# Altium integrated library altera-stratix-iv.IntLib: 38 symbols (part 5 of 21)
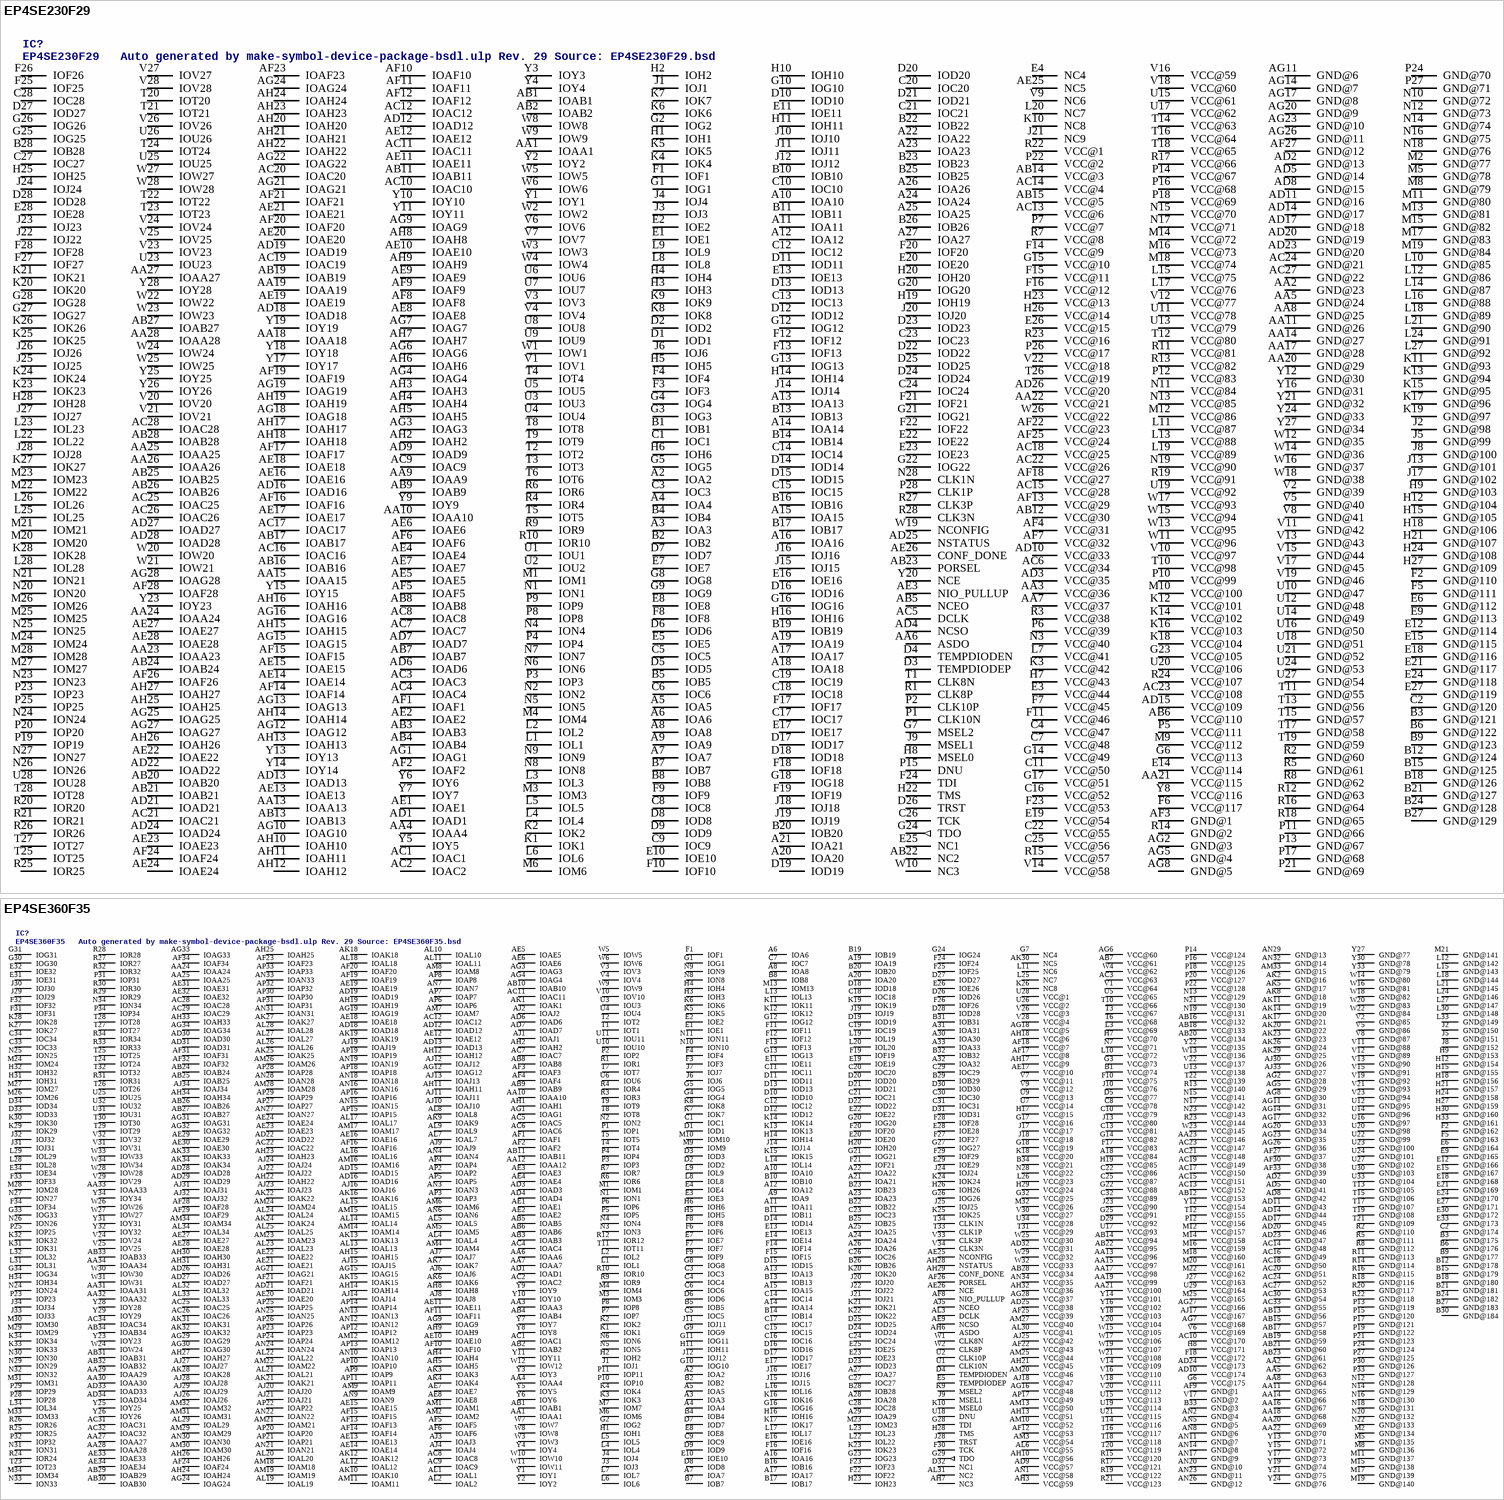
[diagram p20: symbols EP4SE230F29 to EP4SE360F35]

## EP4SE360F35
designator IC?, comment EP4SE360F35   Auto generated by make-symbol-device-package-bsdl.ulp Rev. 29 Source: EP4SE360F35.bsd
MPN: EP4SE360F35C2; OC_FARNELL: unknown; OC_NEWARK: 52R1681
footprint FBGA1152
pins: A2 IOA2, A3 IOA3, A4 IOA4, A5 IOA5, A6 IOA6, A7 IOA7, A8 IOA8, A9 IOA9, A10 IOA10, A11 IOA11, A12 IOA12, A13 IOA13, A14 IOA14, A15 IOA15, A16 IOA16, A17 IOA17, A18 VCC@84 (power), A19 IOA19, A20 IOA20, A21 IOA21, A22 IOA22, A23 IOA23, A24 IOA24, A25 IOA25, A26 IOA26, A27 IOA27, A28 IOA28, A29 IOA29, A30 IOA30, A31 IOA31, A32 IOA32, A33 IOA33, AA1 IOAA1, AA2 GND@62 (power), AA3 IOAA3, AA4 IOAA4, AA5 GND@63 (power), AA6 IOAA6, AA7 IOAA7, AA8 GND@64 (power), AA10 IOAA10, AA11 GND@65 (power), AA12 IOAA12, AA13 VCC@96 (power), AA14 GND@66 (power), AA15 VCC@97 (power), AA16 GND@67 (power), AA17 VCC@98 (power), AA18 GND@68 (power), AA19 VCC@99 (power), AA20 GND@69 (power), AA21 VCC@100 (power), AA22 GND@70 (power), AA23 VCC@146 (power), AA24 IOAA24, AA25 IOAA25, AA27 IOAA27, AA28 IOAA28, AA29 IOAA29, AA30 IOAA30, AA31 IOAA31, AA32 IOAA32, AA33 IOAA33, AA34 IOAA34, AB1 IOAB1, AB2 IOAB2, AB3 IOAB3, AB4 IOAB4, AB5 IOAB5, AB6 IOAB6, AB7 VCC@61 (power), AB8 IOAB8, AB9 IOAB9, AB10 IOAB10, AB11 IOAB11, AB12 VCC@153 (power), AB13 GND@56 (power), AB14 VCC@94 (power), AB15 GND@57 (power), AB16 VCC@132 (power), AB17 GND@58 (power), AB18 VCC@133 (power), AB19 GND@59 (power), AB20 VCC@134 (power), AB21 GND@60 (power), AB22 VCC@95 (power), AB23 GND@61 (power), AB24 IOAB24, AB25 IOAB25, AB26 IOAB26, AB27 IOAB27, AB28 VCC@34 (power), AB29 IOAB29, AB30 IOAB30, AB31 IOAB31, AB32 IOAB32, AB33 IOAB33, AB34 IOAB34, AC1 IOAC1, AC2 IOAC2, AC3 VCC@63 (power), AC4 IOAC4, AC5 IOAC5, AC6 IOAC6, AC7 IOAC7, AC8 IOAC8, AC9 IOAC9, AC10 VCC@170 (power), AC11 IOAC11, AC12 IOAC12, AC13 VCC@152 (power), AC14 GND@48 (power), AC15 VCC@151 (power), AC16 GND@49 (power), AC17 VCC@150 (power), AC18 GND@50 (power), AC19 VCC@149 (power), AC20 GND@51 (power), AC21 VCC@148 (power), AC22 IOAC22, AC23 VCC@147 (power), AC24 GND@52 (power), AC25 IOAC25, AC26 IOAC26, AC27 GND@53 (power), AC28 IOAC28, AC29 IOAC29, AC30 GND@54 (power), AC31 IOAC31, AC32 IOAC32, AC33 GND@55 (power), AC34 IOAC34, AD1 IOAD1, AD2 GND@40 (power), AD3 IOAD3, AD4 IOAD4, AD5 GND@41 (power), AD6 IOAD6, AD7 IOAD7, AD8 GND@42 (power), AD9 VCC@57 (power), AD10 VCC@174 (power), AD11 GND@43 (power), AD12 IOAD12, AD13 IOAD13, AD14 GND@44 (power), AD15 IOAD15, AD16 IOAD16, AD17 GND@45 (power), AD18 IOAD18, AD19 IOAD19, AD20 GND@46 (power), AD21 IOAD21, AD22 IOAD22, AD23 GND@47 (power), AD24 VCC@173 (power), AD25 VCC@38 (power), AD26 IOAD26, AD27 IOAD27, AD28 IOAD28, AD29 IOAD29, AD30 IOAD30, AD31 IOAD31, AD32 VCC@31 (power), AD33 IOAD33, AD34 IOAD34, AE1 IOAE1, AE2 IOAE2, AE3 IOAE3, AE4 IOAE4, AE5 IOAE5, AE6 IOAE6, AE7 IOAE7, AE8 IOAE8, AE9 NCSO, AE10 IOAE10, AE11 IOAE11, AE12 IOAE12, AE13 IOAE13, AE14 IOAE14, AE15 IOAE15, AE16 IOAE16, AE17 VCC@10 (power), AE18 IOAE18, AE19 IOAE19, AE20 IOAE20, AE21 IOAE21, AE22 IOAE22, AE23 IOAE23, AE24 IOAE24, AE25 NCONFIG, AE26 NCE, AE27 IOAE27, AE28 IOAE28, AE29 IOAE29, AE30 IOAE30, AE31 IOAE31, AE32 IOAE32, AE33 IOAE33, AE34 IOAE34, AF1 IOAF1, AF2 IOAF2, AF3 IOAF3, AF4 IOAF4, AF5 IOAF5, AF6 IOAF6, AF8 NIO_PULLUP, AF9 GND@1 (power), AF10 IOAF10, AF11 IOAF11, AF12 VCC@53 (power), AF13 IOAF13, AF14 IOAF14, AF15 IOAF15, AF16 IOAF16, AF17 VCC@8 (power), AF18 VCC@7 (power), AF19 IOAF19, AF20 IOAF20, AF21 IOAF21, AF22 VCC@43 (power), AF23 IOAF23, AF24 IOAF24, AF25 VCC@39 (power), AF26 PORSEL, AF27 GND@37 (power), AF28 IOAF28, AF29 IOAF29, AF30 GND@38 (power), AF31 IOAF31, AF32 IOAF32, AF33 GND@39 (power), AF34 IOAF34, AG1 IOAG1, AG2 GND@28 (power), AG3 IOAG3, AG4 IOAG4, AG5 GND@29 (power), AG6 VCC@60 (power), AG7 VCC@168 (power), AG8 GND@30 (power), AG9 IOAG9, AG11 GND@31 (power), AG12 IOAG12, AG14 GND@32 (power), AG15 IOAG15, AG16 VCC@48 (power), AG17 GND@33 (power), AG18 VCC@5 (power), AG19 IOAG19, AG20 GND@34 (power), AG21 IOAG21, AG23 GND@35 (power), AG24 IOAG24, AG26 GND@36 (power), AG27 VCC@166 (power), AG28 VCC@37 (power), AG29 IOAG29, AG30 IOAG30, AG31 IOAG31, AG32 IOAG32, AG33 IOAG33, AG34 IOAG34, AH1 IOAH1, AH2 IOAH2, AH3 VCC@59 (power), AH4 IOAH4, AH5 IOAH5, AH6 ASDO, AH7 NC3, AH8 IOAH8, AH9 IOAH9, AH10 VCC@56 (power), AH11 IOAH11, AH12 IOAH12, AH13 VCC@51 (power), AH14 IOAH14, AH15 IOAH15, AH17 VCC@9 (power), AH18 VCC@6 (power), AH19 IOAH19, AH21 VCC@45 (power), AH22 IOAH22, AH23 IOAH23, AH24 IOAH24, AH25 IOAH25, AH26 IOAH26, AH27 IOAH27, AH28 NSTATUS, AH29 CONF_DONE, AH30 IOAH30, AH31 IOAH31, AH32 VCC@36 (power), AH33 IOAH33, AH34 IOAH34, AJ1 IOAJ1, AJ2 IOAJ2, AJ3 IOAJ3, AJ4 IOAJ4, AJ5 NCEO, AJ6 IOAJ6, AJ7 IOAJ7, AJ8 IOAJ8, AJ9 IOAJ9, AJ10 IOAJ10, AJ11 IOAJ11, AJ12 IOAJ12, AJ13 IOAJ13, AJ14 IOAJ14, AJ15 IOAJ15, AJ16 IOAJ16, AJ17 VCC@167 (power), AJ18 VCC@47 (power), AJ19 IOAJ19, AJ20 IOAJ20, AJ21 IOAJ21, AJ22 IOAJ22, AJ23 IOAJ23, AJ24 IOAJ24, AJ25 VCC@42 (power), AJ26 IOAJ26, AJ27 IOAJ27, AJ28 IOAJ28, AJ29 IOAJ29, AJ30 GND@26 (power), AJ31 IOAJ31, AJ32 IOAJ32, AJ33 GND@27 (power), AJ34 IOAJ34, AK1 IOAK1, AK2 GND@16 (power), AK3 IOAK3, AK4 IOAK4, AK5 GND@17 (power), AK6 IOAK6, AK7 IOAK7, AK8 GND@18 (power), AK9 IOAK9, AK10 IOAK10, AK11 GND@19 (power), AK12 IOAK12, AK13 IOAK13, AK14 GND@20 (power), AK15 IOAK15, AK16 IOAK16, AK17 GND@21 (power), AK18 IOAK18, AK19 IOAK19, AK20 GND@22 (power), AK21 IOAK21, AK22 IOAK22, AK23 GND@23 (power), AK24 IOAK24, AK25 IOAK25, AK26 GND@24 (power), AK27 IOAK27, AK28 IOAK28, AK29 GND@25 (power), AK30 NC5, AK31 IOAK31, AK32 IOAK32, AK33 IOAK33, AK34 IOAK34, AL1 IOAL1, AL2 IOAL2, AL3 DCLK, AL4 IOAL4, AL5 IOAL5, AL6 VCC@55 (power), AL7 IOAL7, AL8 IOAL8, AL9 IOAL9, AL10 IOAL10, AL11 IOAL11, AL12 IOAL12, AL13 IOAL13, AL14 IOAL14, AL15 IOAL15, AL16 IOAL16, AL17 IOAL17, AL18 IOAL18, AL19 IOAL19, AL20 IOAL20, AL21 IOAL21, AL22 IOAL22, AL23 IOAL23, AL24 IOAL24, AL25 IOAL25, AL26 IOAL26, AL27 IOAL27, AL28 IOAL28, AL29 IOAL29, AL30 VCC@41 (power), AL31 NC2, AL32 IOAL32, AL33 IOAL33, AL34 IOAL34, AM1 IOAM1, AM2 IOAM2, AM3 VCC@54 (power), AM4 IOAM4, AM5 IOAM5, AM6 IOAM6, AM7 IOAM7, AM8 IOAM8, AM9 IOAM9, AM10 VCC@52 (power), AM11 IOAM11, AM12 IOAM12, AM13 VCC@50 (power), AM14 IOAM14, AM15 IOAM15, AM16 IOAM16, AM17 IOAM17, AM18 IOAM18, AM19 IOAM19, AM20 VCC@46 (power), AM21 IOAM21, AM22 IOAM22, AM23 IOAM23, AM24 IOAM24, AM25 VCC@44 (power), AM26 IOAM26, AM27 VCC@40 (power), AM28 IOAM28, AM29 IOAM29, AM30 IOAM30, AM31 IOAM31, AM32 IOAM32, AM33 GND@15 (power), AM34 IOAM34, AN1 VCC@58 (power), AN2 GND@4 (power), AN3 IOAN3, AN4 IOAN4, AN5 GND@5 (power), AN6 IOAN6, AN7 IOAN7, AN8 GND@6 (power), AN9 IOAN9, AN10 IOAN10, AN11 GND@7 (power), AN12 IOAN12, AN13 IOAN13, AN14 GND@8 (power), AN15 IOAN15, AN16 IOAN16, AN17 GND@9 (power), AN18 IOAN18, AN19 IOAN19, AN20 GND@10 (power), AN21 IOAN21, AN22 IOAN22, AN23 GND@11 (power), AN24 IOAN24, AN25 IOAN25, AN26 GND@12 (power), AN27 IOAN27, AN28 IOAN28, AN29 GND@13 (power), AN30 IOAN30, AN31 IOAN31, AN32 GND@14 (power), AN33 IOAN33, AN34 VCC@35 (power), AP2 IOAP2, AP3 IOAP3, AP4 IOAP4, AP5 IOAP5, AP6 IOAP6, AP7 IOAP7, AP8 IOAP8, AP9 IOAP9, AP10 IOAP10, AP11 IOAP11, AP12 IOAP12, AP13 IOAP13, AP14 IOAP14, AP15 IOAP15, AP16 IOAP16, AP17 VCC@49 (power), AP18 IOAP18, AP19 IOAP19, AP20 IOAP20, AP21 IOAP21, AP22 IOAP22, AP23 IOAP23, AP24 IOAP24, AP25 IOAP25, AP26 IOAP26, AP27 IOAP27, AP28 IOAP28, AP29 IOAP29, AP30 IOAP30, AP31 IOAP31, AP32 IOAP32, AP33 IOAP33, B1 VCC@74 (power), B2 IOB2, B3 GND@175 (power), B4 IOB4, B5 IOB5, B6 GND@176 (power), B7 IOB7, B8 IOB8, B9 GND@177 (power), B10 IOB10, B11 IOB11, B12 GND@178 (power), B13 IOB13, B14 IOB14, B15 GND@179 (power), B16 IOB16, B17 IOB17, B18 GND@180 (power), B19 IOB19, B20 IOB20, B21 GND@181 (power), B22 IOB22, B23 IOB23, B24 GND@182 (power), B25 IOB25, B26 IOB26, B27 GND@183 (power), B28 IOB28, B29 IOB29, B30 GND@184 (power), B31 IOB31, B32 IOB32, B33 GND@3 (power), B34 VCC@21 (power), C1 IOC1, C2 GND@174 (power), C3 IOC3, C4 IOC4, C5 IOC5, C6 IOC6, C7 IOC7, C8 VCC@78 (power), C9 IOC9, C10 VCC@79 (power), C11 IOC11, C12 IOC12, C13 VCC@81 (power), C14 IOC14, C15 IOC15, C16 IOC16, C17 IOC17, C18 IOC18, C19 IOC19, C20 IOC20, C21 IOC21, C22 VCC@86 (power), C23 IOC23, C24 IOC24, C25 VCC@87 (power), C26 IOC26, C27 IOC27, C28 IOC28, C29 IOC29, C30 IOC30, C31 IOC31, C32 VCC@89 (power), C33 IOC33, C34 IOC34, D1 IOD1, D2 IOD2, D3 IOD3, D4 TEMPDIODEN, D5 VCC@77 (power), D6 IOD6, D7 IOD7, D8 IOD8, D9 IOD9, D10 IOD10, D11 IOD11, D12 IOD12, D13 IOD13, D14 IOD14, D15 IOD15, D16 IOD16, D17 IOD17, D18 IOD18, D19 IOD19, D20 IOD20, D21 IOD21, D22 IOD22, D23 IOD23, D24 IOD24, D25 IOD25, D26 IOD26, D27 IOD27, D28 IOD28, D29 VCC@92 (power), D30 IOD30, D31 IOD31, D32 NC1, D33 IOD33, D34 IOD34, E1 IOE1, E2 IOE2, E3 IOE3, E4 IOE4, E5 TEMPDIODEP, E6 GND@164 (power), E7 IOE7, E8 IOE8, E9 GND@165 (power), E10 IOE10, E11 IOE11, E12 GND@166 (power), E13 IOE13, E14 IOE14, E15 GND@167 (power), E16 IOE16, E17 IOE17, E18 GND@168 (power), E19 IOE19, E20 IOE20, E21 GND@169 (power), E22 IOE22, E23 IOE23, E24 GND@170 (power), E25 IOE25, E26 IOE26, E27 GND@171 (power), E28 IOE28, E29 IOE29, E30 GND@172 (power), E31 IOE31, E32 IOE32, E33 GND@173 (power), E34 IOE34, F1 IOF1, F2 GND@162 (power), F3 IOF3, F4 IOF4, F5 GND@163 (power), F6 IOF6, F7 IOF7, F8 IOF8, F9 IOF9, F10 VCC@75 (power), F11 IOF11, F12 IOF12, F13 IOF13, F14 IOF14, F15 IOF15, F16 IOF16, F17 VCC@83 (power), F18 VCC@172 (power), F19 IOF19, F20 IOF20, F21 IOF21, F22 IOF22, F23 IOF23, F24 IOF24, F25 IOF25, F26 IOF26, F27 IOF27, F28 IOF28, F29 IOF29, F30 TCK, F31 IOF31, F32 IOF32, F33 IOF33, F34 IOF34, G1 IOG1, G2 IOG2, G3 VCC@73 (power), G4 IOG4, G5 IOG5, G6 VCC@175 (power), G7 NC4, G8 IOG8, G9 IOG9, G10 IOG10, G11 IOG11, G12 IOG12, G13 IOG13, G14 VCC@82 (power), G16 IOG16, G17 VCC@16 (power), G18 VCC@19 (power), G20 IOG20, G21 IOG21, G22 VCC@88 (power), G23 IOG23, G24 IOG24, G25 VCC@91 (power), G26 IOG26, G27 IOG27, G28 TDI, G29 TDO (out), G30 IOG30, G31 IOG31, G32 VCC@25 (power), G33 IOG33, G34 IOG34, H1 IOH1, H2 IOH2, H3 IOH3, H4 IOH4, H5 IOH5, H6 IOH6, H7 VCC@70 (power), H8 VCC@171 (power), H9 GND@153 (power), H11 IOH11, H12 GND@154 (power), H14 IOH14, H15 GND@155 (power), H16 IOH16, H17 VCC@15 (power), H18 GND@156 (power), H19 VCC@85 (power), H20 IOH20, H21 GND@157 (power), H23 IOH23, H24 GND@158 (power), H26 IOH26, H27 GND@159 (power), H28 TMS, H29 VCC@24 (power), H30 GND@160 (power), H31 IOH31, H32 IOH32, H33 GND@161 (power), H34 IOH34, J1 IOJ1, J2 GND@150 (power), J3 IOJ3, J4 IOJ4, J5 GND@151 (power), J6 IOJ6, J7 IOJ7, J8 GND@152 (power), J9 MSEL1, J10 VCC@76 (power), J11 IOJ11, J12 IOJ12, J13 VCC@80 (power), J14 IOJ14, J15 IOJ15, J16 IOJ16, J17 VCC@17 (power), J18 VCC@18 (power), J19 IOJ19, J20 IOJ20, J21 IOJ21, J22 IOJ22, J23 VCC@90 (power), J24 IOJ24, J25 IOJ25, J27 VCC@163 (power), J28 TRST, J29 IOJ29, J30 IOJ30, J31 IOJ31, J32 IOJ32, J33 IOJ33, J34 IOJ34, K1 IOK1, K2 IOK2, K3 IOK3, K4 IOK4, K5 IOK5, K6 IOK6, K7 IOK7, K8 IOK8, K9 MSEL2, K10 MSEL0, K11 IOK11, K12 IOK12, K13 IOK13, K14 IOK14, K15 IOK15, K16 IOK16, K17 IOK17, K18 VCC@20 (power), K19 IOK19, K20 IOK20, K21 IOK21, K22 IOK22, K23 IOK23, K24 IOK24, K25 IOK25, K26 NC8, K27 IOK27, K28 IOK28, K29 IOK29, K30 IOK30, K31 IOK31, K32 IOK32, K33 IOK33, K34 IOK34, L1 IOL1, L2 IOL2, L3 VCC@69 (power), L4 IOL4, L5 IOL5, L6 IOL6, L7 IOL7, L8 IOL8, L9 IOL9, L10 VCC@72 (power), L11 NC6, L12 GND@142 (power), L13 IOL13, L14 IOL14, L15 GND@143 (power), L16 IOL16, L17 IOL17, L18 GND@144 (power), L19 IOL19, L20 IOL20, L21 GND@145 (power), L22 IOL22, L23 IOL23, L24 GND@146 (power), L25 NC7, L26 VCC@23 (power), L27 GND@147 (power), L28 IOL28, L29 IOL29, L30 GND@148 (power), L31 IOL31, L32 IOL32, L33 GND@149 (power), L34 IOL34, M1 IOM1, M2 GND@134 (power), M3 IOM3, M4 IOM4, M5 GND@135 (power), M6 IOM6, M7 IOM7, M8 GND@136 (power), M9 IOM9, M10 IOM10, M11 GND@137 (power), M12 VCC@157 (power), M13 IOM13, M14 VCC@158 (power), M15 GND@138 (power), M16 VCC@159 (power), M17 GND@139 (power), M18 VCC@160 (power), M19 GND@140 (power), M20 VCC@161 (power), M21 GND@141 (power), M22 VCC@162 (power), M23 IOM23, M24 IOM24, M25 VCC@165 (power), M26 IOM26, M27 IOM27, M28 IOM28, M29 IOM29, M30 IOM30, M31 IOM31, M32 VCC@26 (power), M33 IOM33, M34 IOM34, N1 ION1, N2 ION2, N3 ION3, N4 ION4, N5 ION5, N6 ION6, N7 VCC@71 (power), N8 ION8, N9 ION9, N10 ION10, N11 ION11, N12 GND@128 (power), N13 VCC@129 (power), N14 GND@129 (power), N15 VCC@141 (power), N16 GND@130 (power), N17 VCC@142 (power), N18 GND@131 (power), N19 VCC@131 (power), N20 GND@132 (power), N21 VCC@130 (power), N22 GND@133 (power), N23 VCC@143 (power), N24 ION24, N25 ION25, N26 ION26, N27 ION27, N28 VCC@22 (power), N29 ION29, N30 ION30, N31 ION31, N32 ION32, N33 ION33, N34 ION34, P1 IOP1, P2 IOP2, P3 IOP3, P4 IOP4, P5 IOP5, P6 IOP6, P7 IOP7, P8 IOP8, P10 IOP10, P11 IOP11, P12 VCC@156 (power), P13 GND@119 (power), P14 VCC@124 (power), P15 GND@120 (power), P16 VCC@125 (power), P17 GND@121 (power), P18 VCC@126 (power), P19 GND@122 (power), P20 VCC@127 (power), P21 GND@123 (power), P22 VCC@128 (power), P23 IOP23, P24 GND@124 (power), P25 IOP25, P27 GND@125 (power), P28 IOP28, P29 IOP29, P30 GND@126 (power), P31 IOP31, P32 IOP32, P33 GND@127 (power), P34 IOP34, R1 IOR1, R2 GND@110 (power), R3 IOR3, R4 IOR4, R5 GND@111 (power), R6 IOR6, R7 IOR7, R8 GND@112 (power), R9 IOR9, R10 IOR10, R11 GND@113 (power), R12 IOR12, R13 VCC@140 (power), R14 GND@114 (power), R15 VCC@120 (power), R16 GND@115 (power), R17 VCC@121 (power), R18 GND@116 (power), R19 VCC@122 (power), R20 GND@117 (power), R21 VCC@123 (power), R22 GND@118 (power), R23 VCC@144 (power), R24 IOR24, R25 IOR25, R26 IOR26, R27 IOR27, R28 IOR28, R29 IOR29, R30 IOR30, R31 IOR31, R32 IOR32, R33 IOR33, R34 IOR34, T1 IOT1, T2 IOT2, T3 VCC@67 (power), T4 IOT4, T5 IOT5, T6 VCC@68 (power), T7 IOT7, T8 IOT8, T9 IOT9, T10 VCC@66 (power), T11 IOT11, T12 VCC@155 (power), T13 GND@105 (power), T14 VCC@116 (power), T15 GND@106 (power), T16 VCC@117 (power), T17 GND@107 (power), T18 VCC@118 (power), T19 GND@108 (power), T20 VCC@119 (power), T21 GND@109 (power), T22 VCC@139 (power), T23 IOT23, T24 IOT24, T25 IOT25, T26 IOT26, T27 IOT27, T28 IOT28, T29 IOT29, T30 IOT30, T31 VCC@29 (power), T32 IOT32, T33 CLK1P, T34 CLK1N, U1 CLK10N, U2 CLK10P, U3 IOU3, U4 IOU4, U5 VCC@65 (power), U6 IOU6, U7 VCC@14 (power), U9 VCC@13 (power), U10 IOU10, U11 IOU11, U12 GND@95 (power), U13 VCC@138 (power), U14 GND@96 (power), U15 VCC@113 (power), U16 GND@97 (power), U17 VCC@93 (power), U18 DNU, U19 VCC@114 (power), U20 GND@98 (power), U21 VCC@115 (power), U22 GND@99 (power), U23 GND@100 (power), U24 GND@101 (power), U25 IOU25, U26 VCC@2 (power), U27 GND@102 (power), U28 VCC@1 (power), U29 VCC@164 (power), U30 GND@103 (power), U31 IOU31, U32 IOU32, U33 GND@104 (power), U34 VCC@28 (power), V1 VCC@64 (power), V2 GND@85 (power), V3 IOV3, V4 IOV4, V5 GND@86 (power), V6 VCC@169 (power), V7 VCC@11 (power), V8 GND@87 (power), V9 VCC@12 (power), V10 IOV10, V11 GND@88 (power), V12 GND@89 (power), V13 GND@90 (power), V14 VCC@109 (power), V15 GND@91 (power), V16 VCC@110 (power), V17 GND@2 (power), V18 VCC@111 (power), V19 GND@92 (power), V20 VCC@112 (power), V21 GND@93 (power), V22 VCC@137 (power), V23 GND@94 (power), V24 IOV24, V25 IOV25, V26 VCC@3 (power), V28 VCC@4 (power), V29 IOV29, V30 VCC@27 (power), V31 IOV31, V32 IOV32, V33 CLK3P, V34 CLK3N, W1 CLK8N, W2 CLK8P, W3 IOW3, W4 VCC@62 (power), W5 IOW5, W6 IOW6, W7 IOW7, W8 IOW8, W9 IOW9, W10 IOW10, W11 IOW11, W12 IOW12, W13 VCC@136 (power), W14 GND@80 (power), W15 VCC@105 (power), W16 GND@81 (power), W17 VCC@106 (power), W18 GND@82 (power), W19 VCC@107 (power), W20 GND@83 (power), W21 VCC@108 (power), W22 GND@84 (power), W23 VCC@145 (power), W24 IOW24, W25 VCC@30 (power), W26 IOW26, W27 IOW27, W28 IOW28, W29 VCC@32 (power), W30 IOW30, W31 IOW31, W32 VCC@33 (power), W33 IOW33, W34 IOW34, Y1 IOY1, Y2 IOY2, Y3 IOY3, Y4 IOY4, Y5 IOY5, Y6 IOY6, Y7 IOY7, Y8 IOY8, Y9 IOY9, Y10 IOY10, Y11 IOY11, Y12 VCC@154 (power), Y13 GND@71 (power), Y14 VCC@101 (power), Y15 GND@72 (power), Y16 VCC@102 (power), Y17 GND@73 (power), Y18 VCC@103 (power), Y19 GND@74 (power), Y20 VCC@104 (power), Y21 GND@75 (power), Y22 VCC@135 (power), Y23 IOY23, Y24 GND@76 (power), Y25 IOY25, Y26 IOY26, Y27 GND@77 (power), Y28 IOY28, Y29 IOY29, Y30 GND@78 (power), Y31 IOY31, Y32 IOY32, Y33 GND@79 (power), Y34 IOY34

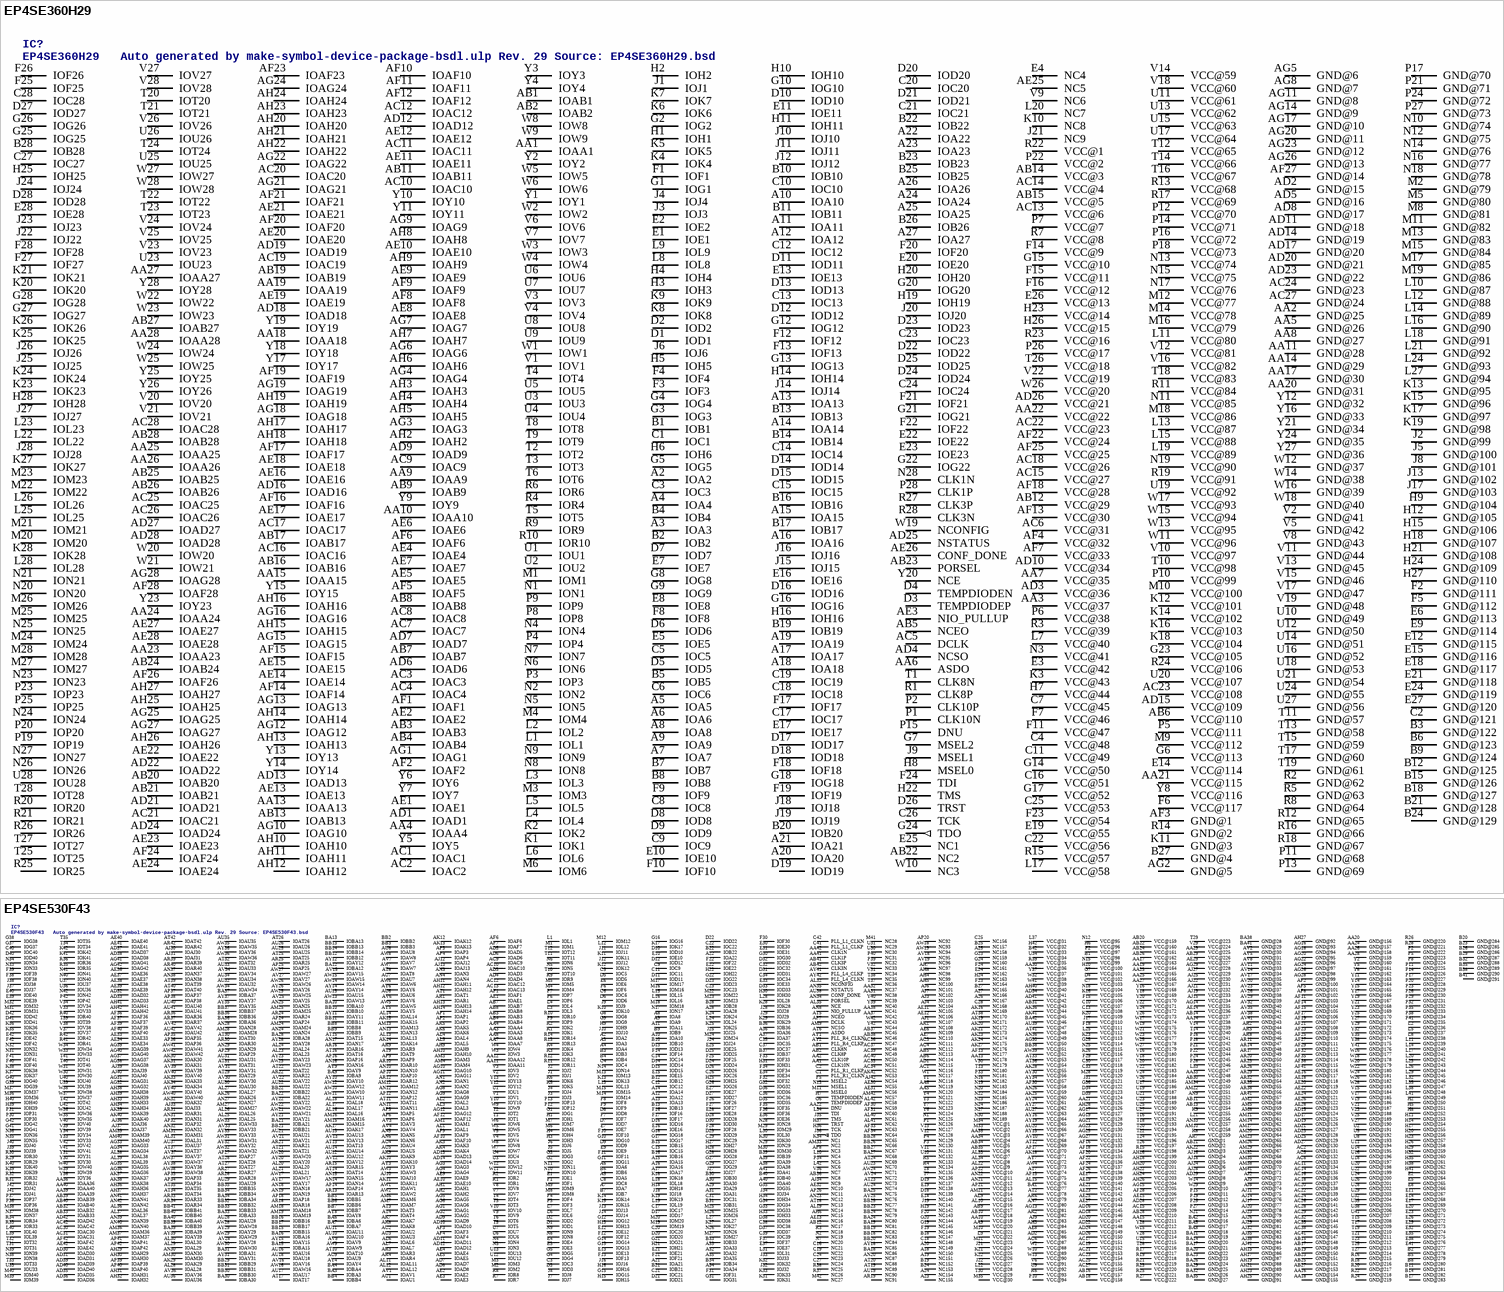
[diagram p3: symbols EP4SE360H29 to EP4SE530F43]

## EP4SE360H29
designator IC?, comment EP4SE360H29   Auto generated by make-symbol-device-package-bsdl.ulp Rev. 29 Source: EP4SE360H29.bsd
OC_FARNELL: unknown; OC_NEWARK: unknown
footprint FBGA780
pins: A2 IOA2, A3 IOA3, A4 IOA4, A5 IOA5, A6 IOA6, A7 IOA7, A8 IOA8, A9 IOA9, A10 IOA10, A11 IOA11, A12 IOA12, A13 IOA13, A14 IOA14, A15 IOA15, A16 IOA16, A17 IOA17, A18 IOA18, A19 IOA19, A20 IOA20, A21 IOA21, A22 IOA22, A23 IOA23, A24 IOA24, A25 IOA25, A26 IOA26, A27 IOA27, AA1 IOAA1, AA2 GND@25 (power), AA3 VCC@37 (power), AA4 IOAA4, AA5 GND@26 (power), AA6 ASDO, AA7 VCC@35 (power), AA8 GND@27 (power), AA9 IOAA9, AA10 IOAA10, AA11 GND@28 (power), AA13 IOAA13, AA14 GND@29 (power), AA15 IOAA15, AA17 GND@30 (power), AA18 IOAA18, AA19 IOAA19, AA20 GND@31 (power), AA21 VCC@115 (power), AA22 VCC@22 (power), AA23 IOAA23, AA24 IOAA24, AA25 IOAA25, AA26 IOAA26, AA27 IOAA27, AA28 IOAA28, AB1 IOAB1, AB2 IOAB2, AB3 IOAB3, AB4 IOAB4, AB5 NCEO, AB6 VCC@110 (power), AB7 IOAB7, AB8 IOAB8, AB9 IOAB9, AB11 IOAB11, AB12 VCC@29 (power), AB13 IOAB13, AB14 VCC@3 (power), AB15 VCC@5 (power), AB16 IOAB16, AB17 IOAB17, AB19 IOAB19, AB20 IOAB20, AB21 IOAB21, AB22 NC2, AB23 PORSEL, AB24 IOAB24, AB25 IOAB25, AB26 IOAB26, AB27 IOAB27, AB28 IOAB28, AC1 IOAC1, AC2 IOAC2, AC3 IOAC3, AC4 IOAC4, AC5 DCLK, AC6 VCC@31 (power), AC7 IOAC7, AC8 IOAC8, AC9 IOAC9, AC10 IOAC10, AC11 IOAC11, AC12 IOAC12, AC13 VCC@6 (power), AC14 VCC@4 (power), AC15 VCC@27 (power), AC16 IOAC16, AC17 IOAC17, AC18 VCC@26 (power), AC19 IOAC19, AC20 IOAC20, AC21 IOAC21, AC22 VCC@23 (power), AC23 VCC@108 (power), AC24 GND@23 (power), AC25 IOAC25, AC26 IOAC26, AC27 GND@24 (power), AC28 IOAC28, AD1 IOAD1, AD2 GND@15 (power), AD3 VCC@36 (power), AD4 NCSO, AD5 GND@16 (power), AD6 IOAD6, AD7 IOAD7, AD8 GND@17 (power), AD9 IOAD9, AD10 VCC@34 (power), AD11 GND@18 (power), AD12 IOAD12, AD13 IOAD13, AD14 GND@19 (power), AD15 VCC@109 (power), AD16 IOAD16, AD17 GND@20 (power), AD18 IOAD18, AD19 IOAD19, AD20 GND@21 (power), AD21 IOAD21, AD22 IOAD22, AD23 GND@22 (power), AD24 IOAD24, AD25 NSTATUS, AD26 VCC@21 (power), AD27 IOAD27, AD28 IOAD28, AE1 IOAE1, AE2 IOAE2, AE3 NIO_PULLUP, AE4 IOAE4, AE5 IOAE5, AE6 IOAE6, AE7 IOAE7, AE8 IOAE8, AE9 IOAE9, AE10 IOAE10, AE11 IOAE11, AE12 IOAE12, AE13 IOAE13, AE14 IOAE14, AE15 IOAE15, AE16 IOAE16, AE17 IOAE17, AE18 IOAE18, AE19 IOAE19, AE20 IOAE20, AE21 IOAE21, AE22 IOAE22, AE23 IOAE23, AE24 IOAE24, AE25 NC5, AE26 CONF_DONE, AE27 IOAE27, AE28 IOAE28, AF1 IOAF1, AF2 IOAF2, AF3 GND@1 (power), AF4 VCC@32 (power), AF5 IOAF5, AF6 IOAF6, AF7 VCC@33 (power), AF8 IOAF8, AF9 IOAF9, AF10 IOAF10, AF11 IOAF11, AF12 IOAF12, AF13 VCC@30 (power), AF14 IOAF14, AF15 IOAF15, AF16 IOAF16, AF17 IOAF17, AF18 VCC@28 (power), AF19 IOAF19, AF20 IOAF20, AF21 IOAF21, AF22 VCC@24 (power), AF23 IOAF23, AF24 IOAF24, AF25 VCC@25 (power), AF26 IOAF26, AF27 GND@14 (power), AF28 IOAF28, AG1 IOAG1, AG2 GND@5 (power), AG3 IOAG3, AG4 IOAG4, AG5 GND@6 (power), AG6 IOAG6, AG7 IOAG7, AG8 GND@7 (power), AG9 IOAG9, AG10 IOAG10, AG11 GND@8 (power), AG12 IOAG12, AG13 IOAG13, AG14 GND@9 (power), AG15 IOAG15, AG16 IOAG16, AG17 GND@10 (power), AG18 IOAG18, AG19 IOAG19, AG20 GND@11 (power), AG21 IOAG21, AG22 IOAG22, AG23 GND@12 (power), AG24 IOAG24, AG25 IOAG25, AG26 GND@13 (power), AG27 IOAG27, AG28 IOAG28, AH2 IOAH2, AH3 IOAH3, AH4 IOAH4, AH5 IOAH5, AH6 IOAH6, AH7 IOAH7, AH8 IOAH8, AH9 IOAH9, AH10 IOAH10, AH11 IOAH11, AH12 IOAH12, AH13 IOAH13, AH14 IOAH14, AH15 IOAH15, AH16 IOAH16, AH17 IOAH17, AH18 IOAH18, AH19 IOAH19, AH20 IOAH20, AH21 IOAH21, AH22 IOAH22, AH23 IOAH23, AH24 IOAH24, AH25 IOAH25, AH26 IOAH26, AH27 IOAH27, B1 IOB1, B2 IOB2, B3 GND@122 (power), B4 IOB4, B5 IOB5, B6 GND@123 (power), B7 IOB7, B8 IOB8, B9 GND@124 (power), B10 IOB10, B11 IOB11, B12 GND@125 (power), B13 IOB13, B14 IOB14, B15 GND@126 (power), B16 IOB16, B17 IOB17, B18 GND@127 (power), B19 IOB19, B20 IOB20, B21 GND@128 (power), B22 IOB22, B23 IOB23, B24 GND@129 (power), B25 IOB25, B26 IOB26, B27 GND@4 (power), B28 IOB28, C1 IOC1, C2 GND@121 (power), C3 IOC3, C4 VCC@48 (power), C5 IOC5, C6 IOC6, C7 VCC@45 (power), C8 IOC8, C9 IOC9, C10 IOC10, C11 VCC@49 (power), C12 IOC12, C13 IOC13, C14 IOC14, C15 IOC15, C16 VCC@51 (power), C17 IOC17, C18 IOC18, C19 IOC19, C20 IOC20, C21 IOC21, C22 VCC@56 (power), C23 IOC23, C24 IOC24, C25 VCC@53 (power), C26 TCK, C27 IOC27, C28 IOC28, D1 IOD1, D2 IOD2, D3 TEMPDIODEP, D4 TEMPDIODEN, D5 IOD5, D6 IOD6, D7 IOD7, D8 IOD8, D9 IOD9, D10 IOD10, D11 IOD11, D12 IOD12, D13 IOD13, D14 IOD14, D15 IOD15, D16 IOD16, D17 IOD17, D18 IOD18, D19 IOD19, D20 IOD20, D21 IOD21, D22 IOD22, D23 IOD23, D24 IOD24, D25 IOD25, D26 TRST, D27 IOD27, D28 IOD28, E1 IOE1, E2 IOE2, E3 VCC@42 (power), E4 NC4, E5 IOE5, E6 GND@113 (power), E7 IOE7, E8 IOE8, E9 GND@114 (power), E10 IOE10, E11 IOE11, E12 GND@115 (power), E13 IOE13, E14 VCC@114 (power), E15 GND@116 (power), E16 IOE16, E17 IOE17, E18 GND@117 (power), E19 VCC@55 (power), E20 IOE20, E21 GND@118 (power), E22 IOE22, E23 IOE23, E24 GND@119 (power), E25 NC1, E26 VCC@13 (power), E27 GND@120 (power), E28 IOE28, F1 IOF1, F2 GND@111 (power), F3 IOF3, F4 IOF4, F5 GND@112 (power), F6 VCC@117 (power), F7 VCC@46 (power), F8 IOF8, F9 IOF9, F10 IOF10, F11 VCC@47 (power), F12 IOF12, F13 IOF13, F14 VCC@9 (power), F15 VCC@11 (power), F16 VCC@12 (power), F17 IOF17, F18 IOF18, F19 IOF19, F20 IOF20, F21 IOF21, F22 IOF22, F23 VCC@54 (power), F24 TDI, F25 IOF25, F26 IOF26, F27 IOF27, F28 IOF28, G1 IOG1, G2 IOG2, G3 IOG3, G4 IOG4, G5 IOG5, G6 VCC@113 (power), G7 MSEL2, G8 IOG8, G9 IOG9, G10 IOG10, G12 IOG12, G13 IOG13, G14 VCC@50 (power), G15 VCC@10 (power), G16 IOG16, G17 VCC@52 (power), G18 IOG18, G20 IOG20, G21 IOG21, G22 IOG22, G23 VCC@105 (power), G24 TDO (out), G25 IOG25, G26 IOG26, G27 IOG27, G28 IOG28, H1 IOH1, H2 IOH2, H3 IOH3, H4 IOH4, H5 IOH5, H6 IOH6, H7 VCC@44 (power), H8 MSEL0, H9 GND@104 (power), H10 IOH10, H11 IOH11, H12 GND@105 (power), H14 IOH14, H15 GND@106 (power), H16 IOH16, H18 GND@107 (power), H19 IOH19, H20 IOH20, H21 GND@108 (power), H22 TMS, H23 VCC@14 (power), H24 GND@109 (power), H25 IOH25, H26 VCC@15 (power), H27 GND@110 (power), H28 IOH28, J1 IOJ1, J2 GND@99 (power), J3 IOJ3, J4 IOJ4, J5 GND@100 (power), J6 IOJ6, J8 GND@101 (power), J9 MSEL1, J10 IOJ10, J11 IOJ11, J12 IOJ12, J13 GND@102 (power), J14 IOJ14, J15 IOJ15, J16 IOJ16, J17 GND@103 (power), J18 IOJ18, J19 IOJ19, J20 IOJ20, J21 NC9, J22 IOJ22, J23 IOJ23, J24 IOJ24, J25 IOJ25, J26 IOJ26, J27 IOJ27, J28 IOJ28, K1 IOK1, K2 IOK2, K3 VCC@43 (power), K4 IOK4, K5 IOK5, K6 IOK6, K7 IOK7, K8 IOK8, K9 IOK9, K10 NC8, K11 GND@3 (power), K12 VCC@101 (power), K13 GND@95 (power), K14 VCC@102 (power), K15 GND@96 (power), K16 VCC@103 (power), K17 GND@97 (power), K18 VCC@104 (power), K19 GND@98 (power), K20 IOK20, K21 IOK21, K23 IOK23, K24 IOK24, K25 IOK25, K26 IOK26, K27 IOK27, K28 IOK28, L1 IOL1, L2 IOL2, L3 IOL3, L4 IOL4, L5 IOL5, L6 IOL6, L7 VCC@40 (power), L8 IOL8, L9 IOL9, L10 GND@87 (power), L11 VCC@80 (power), L12 GND@88 (power), L13 VCC@87 (power), L14 GND@89 (power), L15 VCC@88 (power), L16 GND@90 (power), L17 VCC@58 (power), L18 GND@91 (power), L19 VCC@89 (power), L20 NC7, L21 GND@92 (power), L22 IOL22, L23 IOL23, L24 GND@93 (power), L25 IOL25, L26 IOL26, L27 GND@94 (power), L28 IOL28, M1 IOM1, M2 GND@79 (power), M3 IOM3, M4 IOM4, M5 GND@80 (power), M6 IOM6, M8 GND@81 (power), M9 VCC@112 (power), M10 VCC@100 (power), M11 GND@82 (power), M12 VCC@77 (power), M13 GND@83 (power), M14 VCC@78 (power), M15 GND@84 (power), M16 VCC@79 (power), M17 GND@85 (power), M18 VCC@86 (power), M19 GND@86 (power), M20 IOM20, M21 IOM21, M22 IOM22, M23 IOM23, M24 IOM24, M25 IOM25, M26 IOM26, M27 IOM27, M28 IOM28, N1 ION1, N2 ION2, N3 VCC@41 (power), N4 ION4, N5 ION5, N6 ION6, N7 ION7, N8 ION8, N9 ION9, N10 GND@74 (power), N11 VCC@85 (power), N12 GND@75 (power), N13 VCC@74 (power), N14 GND@76 (power), N15 VCC@75 (power), N16 GND@77 (power), N17 VCC@76 (power), N18 GND@78 (power), N19 VCC@90 (power), N20 ION20, N21 ION21, N23 ION23, N24 ION24, N25 ION25, N26 ION26, N27 ION27, N28 CLK1N, P1 CLK10N, P2 CLK10P, P3 IOP3, P4 IOP4, P5 VCC@111 (power), P6 VCC@38 (power), P7 VCC@7 (power), P8 IOP8, P9 IOP9, P10 VCC@99 (power), P11 GND@68 (power), P12 VCC@70 (power), P13 GND@69 (power), P14 VCC@71 (power), P15 DNU, P16 VCC@72 (power), P17 GND@70 (power), P18 VCC@73 (power), P19 IOP19, P20 IOP20, P21 GND@71 (power), P22 VCC@2 (power), P23 IOP23, P24 GND@72 (power), P25 IOP25, P26 VCC@17 (power), P27 GND@73 (power), P28 CLK1P, R1 CLK8P, R2 GND@62 (power), R3 VCC@39 (power), R4 IOR4, R5 GND@63 (power), R6 IOR6, R7 VCC@8 (power), R8 GND@64 (power), R9 IOR9, R10 IOR10, R11 VCC@84 (power), R12 GND@65 (power), R13 VCC@68 (power), R14 GND@2 (power), R15 VCC@57 (power), R16 GND@66 (power), R17 VCC@69 (power), R18 GND@67 (power), R19 VCC@91 (power), R20 IOR20, R21 IOR21, R22 VCC@1 (power), R23 VCC@16 (power), R24 VCC@106 (power), R25 IOR25, R26 IOR26, R27 CLK3P, R28 CLK3N, T1 CLK8N, T2 IOT2, T3 IOT3, T4 IOT4, T5 IOT5, T6 IOT6, T8 IOT8, T9 IOT9, T10 VCC@98 (power), T11 GND@57 (power), T12 VCC@65 (power), T13 GND@58 (power), T14 VCC@66 (power), T15 GND@59 (power), T16 VCC@67 (power), T17 GND@60 (power), T18 VCC@83 (power), T19 GND@61 (power), T20 IOT20, T21 IOT21, T22 IOT22, T23 IOT23, T24 IOT24, T25 IOT25, T26 VCC@18 (power), T27 IOT27, T28 IOT28, U1 IOU1, U2 IOU2, U3 IOU3, U4 IOU4, U5 IOU5, U6 IOU6, U7 IOU7, U8 IOU8, U9 IOU9, U10 GND@49 (power), U11 VCC@61 (power), U12 GND@50 (power), U13 VCC@62 (power), U14 GND@51 (power), U15 VCC@63 (power), U16 GND@52 (power), U17 VCC@64 (power), U18 GND@53 (power), U19 VCC@92 (power), U20 VCC@107 (power), U21 GND@54 (power), U23 IOU23, U24 GND@55 (power), U25 IOU25, U26 IOU26, U27 GND@56 (power), U28 IOU28, V1 IOV1, V2 GND@41 (power), V3 IOV3, V4 IOV4, V5 GND@42 (power), V6 IOV6, V7 IOV7, V8 GND@43 (power), V9 NC6, V10 VCC@97 (power), V11 GND@44 (power), V12 VCC@81 (power), V13 GND@45 (power), V14 VCC@59 (power), V15 GND@46 (power), V16 VCC@82 (power), V17 GND@47 (power), V18 VCC@60 (power), V19 GND@48 (power), V20 IOV20, V21 IOV21, V22 VCC@19 (power), V23 IOV23, V24 IOV24, V25 IOV25, V26 IOV26, V27 IOV27, V28 IOV28, W1 IOW1, W2 IOW2, W3 IOW3, W4 IOW4, W5 IOW5, W6 IOW6, W8 IOW8, W9 IOW9, W10 NC3, W11 VCC@96 (power), W12 GND@37 (power), W13 VCC@95 (power), W14 GND@38 (power), W15 VCC@94 (power), W16 GND@39 (power), W17 VCC@93 (power), W18 GND@40 (power), W19 NCONFIG, W20 IOW20, W21 IOW21, W22 IOW22, W23 IOW23, W24 IOW24, W25 IOW25, W26 VCC@20 (power), W27 IOW27, W28 IOW28, Y1 IOY1, Y2 IOY2, Y3 IOY3, Y4 IOY4, Y5 IOY5, Y6 IOY6, Y7 IOY7, Y8 VCC@116 (power), Y9 IOY9, Y10 IOY10, Y11 IOY11, Y12 GND@32 (power), Y13 IOY13, Y14 IOY14, Y15 IOY15, Y16 GND@33 (power), Y17 IOY17, Y18 IOY18, Y19 IOY19, Y20 NCE, Y21 GND@34 (power), Y23 IOY23, Y24 GND@35 (power), Y25 IOY25, Y26 IOY26, Y27 GND@36 (power), Y28 IOY28